# Altium integrated library Maxim Real-Time Clocks (RTCs).IntLib: 548 symbols (part 7 of 13)
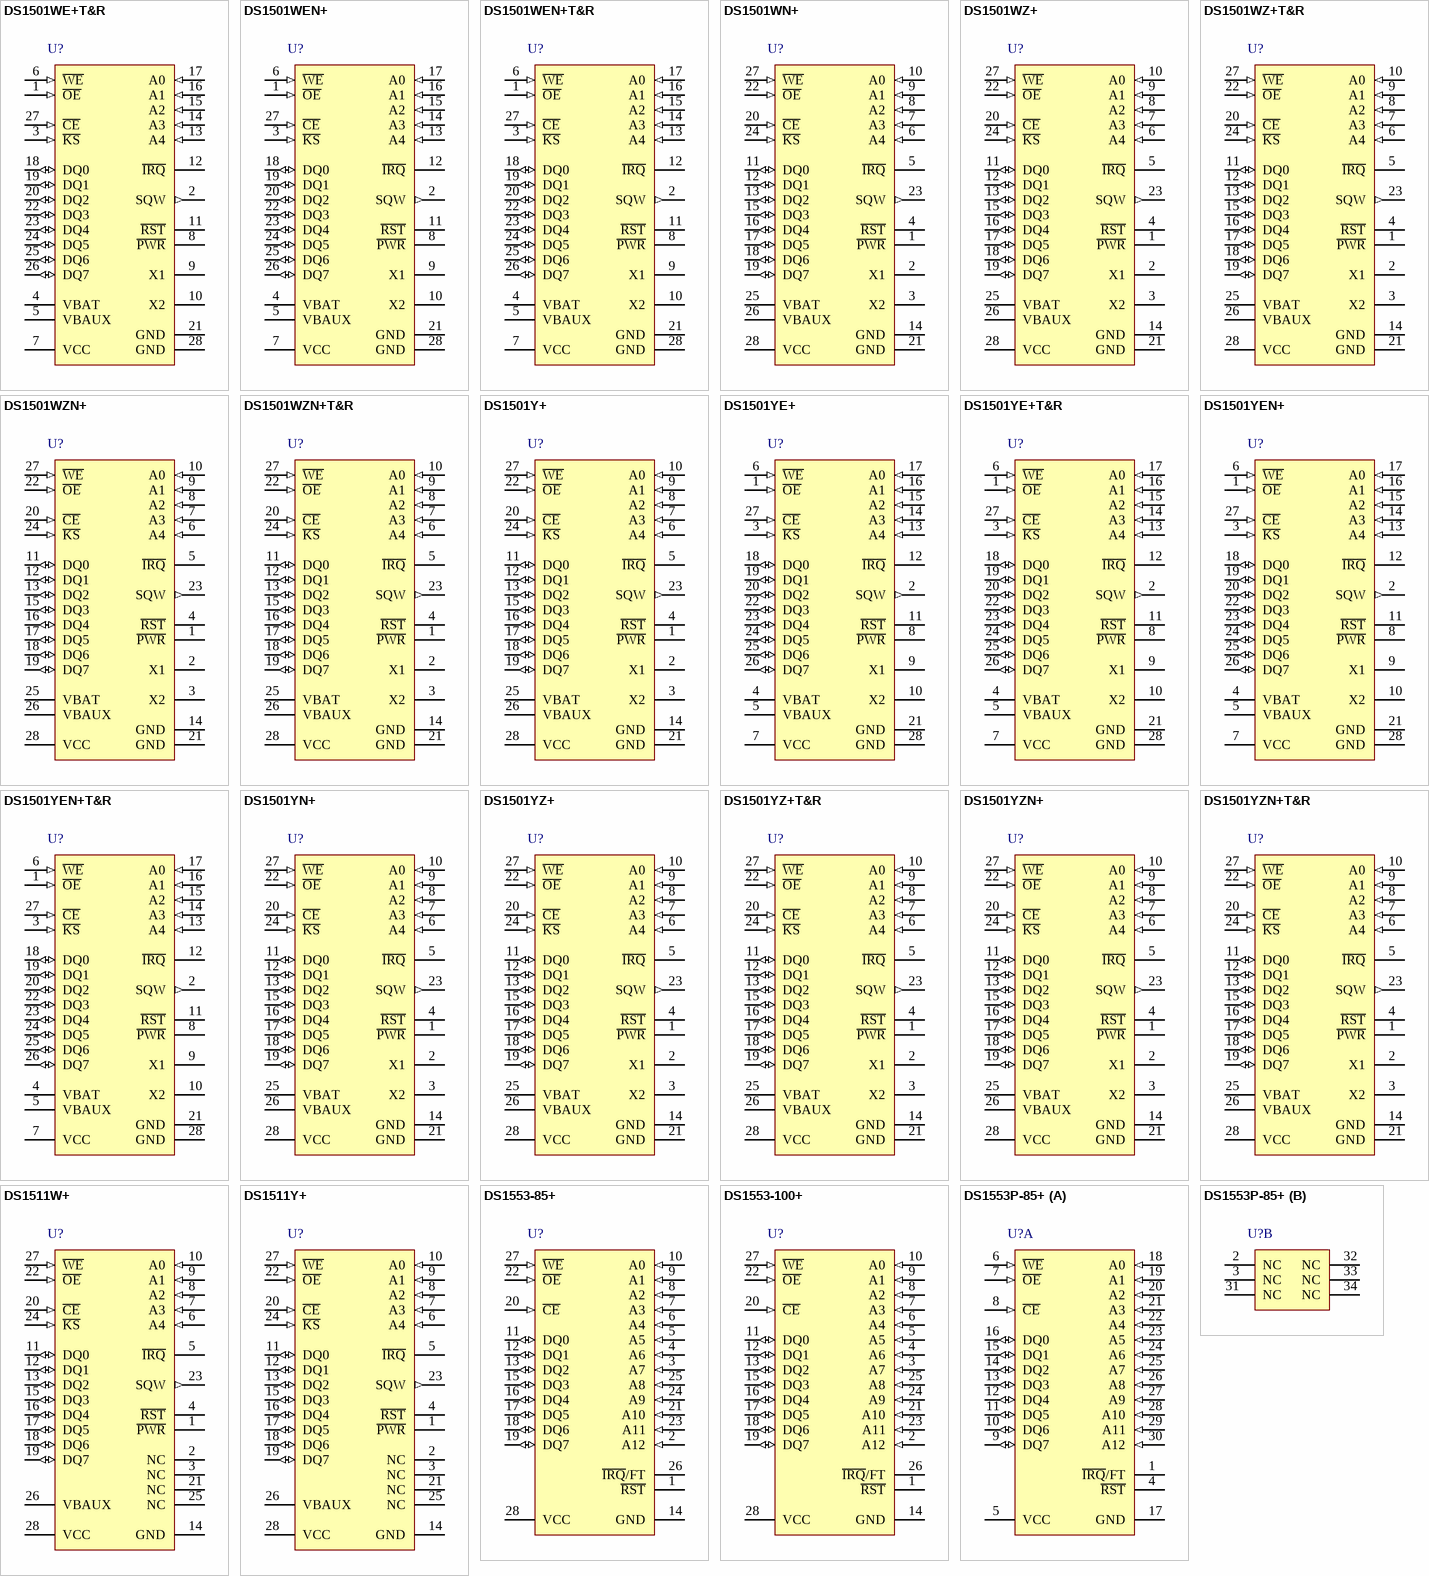
[diagram p27: symbols DS1501WE+T&R to DS1553P-85+]

## DS1501YZN+T&R
designator U?
Y2K-Compliant Watchdog Real-Time Clock, 5.0V, 28-Pin SO, -40 to 85 degC, Pb-Free, Reel; DatasheetVersion: 9-Jan-2009; PackageVersion: revD, 2010; PackageReference: W28+3; PackageDescription: 28-Pin Small-Outline IC, Wide (0.3in), 1.27 mm Pitch, SOIC (W), Pb-Free; Code_JEDEC: MS-013-AE; ComponentLink1Description: Manufacturer URL; ComponentLink1URL: http://www.maxim-ic.com; ComponentLink2Description: Datasheet; ComponentLink2URL: http://datasheets.maxim-ic.com/en/ds/DS1501-DS1511.pdf; ComponentLink3Description: Package Specification; ComponentLink3URL: http://pdfserv.maxim-ic.com/package_dwgs/21-0042.PDF
footprint W28+3_N (SOIC, 28-Leads, Body 17.9x7.5mm, Pitch 1.27mm, IPC Medium Density)
footprint W28+3_L (SOIC, 28-Leads, Body 17.9x7.5mm, Pitch 1.27mm, IPC High Density)
footprint W28+3_M (SOIC, 28-Leads, Body 17.9x7.5mm, Pitch 1.27mm, IPC Low Density)
pins: 1 ~{PWR} (oc), 2 X1, 3 X2, 4 ~{RST} (oc), 5 ~{IRQ} (oc), 6 A4 (in), 7 A3 (in), 8 A2 (in), 9 A1 (in), 10 A0 (in), 11 DQ0 (io), 12 DQ1 (io), 13 DQ2 (io), 14 GND (power), 15 DQ3 (io), 16 DQ4 (io), 17 DQ5 (io), 18 DQ6 (io), 19 DQ7 (io), 20 ~{CE} (in), 21 GND (power), 22 ~{OE} (in), 23 SQW (out), 24 ~{KS} (in), 25 VBAT (power), 26 VBAUX (power), 27 ~{WE} (in), 28 VCC (power)

## DS1511W+
designator U?
Y2K-Compliant Watchdog Real-Time Clock, 3.3V, 28-Pin EDIP, 0 to 70 degC, Pb-Free; DatasheetVersion: 9-Jan-2009; PackageVersion: revA, Feb-2009; PackageReference: MDP28+1; PackageDescription: 28-Pin Encapsulated Dual-In-Line Module, 2.54 mm Pitch, EDIP, 720-mil, Pb-Free; ComponentLink1Description: Manufacturer URL; ComponentLink1URL: http://www.maxim-ic.com; ComponentLink2Description: Datasheet; ComponentLink2URL: http://datasheets.maxim-ic.com/en/ds/DS1501-DS1511.pdf; ComponentLink3Description: Package Specification; ComponentLink3URL: http://pdfserv.maxim-ic.com/package_dwgs/21-0241.PDF
footprint MDP28+1 (DIP; 28 Rectangular Pins, Body 38.9x17.8mm, Row Space 15.24mm, Pitch 2.54mm)
pins: 1 ~{PWR} (oc), 2 NC, 3 NC, 4 ~{RST} (oc), 5 ~{IRQ} (oc), 6 A4 (in), 7 A3 (in), 8 A2 (in), 9 A1 (in), 10 A0 (in), 11 DQ0 (io), 12 DQ1 (io), 13 DQ2 (io), 14 GND (power), 15 DQ3 (io), 16 DQ4 (io), 17 DQ5 (io), 18 DQ6 (io), 19 DQ7 (io), 20 ~{CE} (in), 21 NC, 22 ~{OE} (in), 23 SQW (out), 24 ~{KS} (in), 25 NC, 26 VBAUX (power), 27 ~{WE} (in), 28 VCC (power)

## DS1511Y+
designator U?
Y2K-Compliant Watchdog Real-Time Clock, 5.0V, 28-Pin EDIP, 0 to 70 degC, Pb-Free; DatasheetVersion: 9-Jan-2009; PackageVersion: revA, Feb-2009; PackageReference: MDP28+1; PackageDescription: 28-Pin Encapsulated Dual-In-Line Module, 2.54 mm Pitch, EDIP, 720-mil, Pb-Free; ComponentLink1Description: Manufacturer URL; ComponentLink1URL: http://www.maxim-ic.com; ComponentLink2Description: Datasheet; ComponentLink2URL: http://datasheets.maxim-ic.com/en/ds/DS1501-DS1511.pdf; ComponentLink3Description: Package Specification; ComponentLink3URL: http://pdfserv.maxim-ic.com/package_dwgs/21-0241.PDF
footprint MDP28+1 (DIP; 28 Rectangular Pins, Body 38.9x17.8mm, Row Space 15.24mm, Pitch 2.54mm)
pins: 1 ~{PWR} (oc), 2 NC, 3 NC, 4 ~{RST} (oc), 5 ~{IRQ} (oc), 6 A4 (in), 7 A3 (in), 8 A2 (in), 9 A1 (in), 10 A0 (in), 11 DQ0 (io), 12 DQ1 (io), 13 DQ2 (io), 14 GND (power), 15 DQ3 (io), 16 DQ4 (io), 17 DQ5 (io), 18 DQ6 (io), 19 DQ7 (io), 20 ~{CE} (in), 21 NC, 22 ~{OE} (in), 23 SQW (out), 24 ~{KS} (in), 25 NC, 26 VBAUX (power), 27 ~{WE} (in), 28 VCC (power)

## DS1553-85+
designator U?
64K NV Y2K-Compliant Timekeeping RAM, 5.0V, 28-Pin EDIP, 0 to 70 degC, Pb-Free; DatasheetVersion: rev1, Apr-2010; PackageVersion: revA, Feb-2009; PackageReference: MDF28+2; PackageDescription: 28-Pin Encapsulated Dual-In-Line Module, 2.54 mm Pitch, EDIP, 740-mil, Pb-Free; ComponentLink1Description: Manufacturer URL; ComponentLink1URL: http://www.maxim-ic.com; ComponentLink2Description: Datasheet; ComponentLink2URL: http://datasheets.maxim-ic.com/en/ds/DS1553-DS1553P.pdf; ComponentLink3Description: Package Specification; ComponentLink3URL: http://pdfserv.maxim-ic.com/package_dwgs/21-0245.PDF
footprint MDF28+2 (DIP, 28 Rectangular Pins, Body 38.2x18.5mm, Row Space 15.24mm, Pitch 2.54mm)
pins: 1 ~{RST} (oc), 2 A12 (in), 3 A7 (in), 4 A6 (in), 5 A5 (in), 6 A4 (in), 7 A3 (in), 8 A2 (in), 9 A1 (in), 10 A0 (in), 11 DQ0 (io), 12 DQ1 (io), 13 DQ2 (io), 14 GND (power), 15 DQ3 (io), 16 DQ4 (io), 17 DQ5 (io), 18 DQ6 (io), 19 DQ7 (io), 20 ~{CE} (in), 21 A10 (in), 22 ~{OE} (in), 23 A11 (in), 24 A9 (in), 25 A8 (in), 26 ~{IRQ}/FT (oc), 27 ~{WE} (in), 28 VCC (power)

## DS1553-100+
designator U?
64K NV Y2K-Compliant Timekeeping RAM, 5.0V, 28-Pin EDIP, 0 to 70 degC, Pb-Free; DatasheetVersion: rev1, Apr-2010; PackageVersion: revA, Feb-2009; PackageReference: MDP28+2; PackageDescription: 28-Pin Encapsulated Dual-In-Line Module, 2.54 mm Pitch, EDIP, 740-mil, Pb-Free; ComponentLink1Description: Manufacturer URL; ComponentLink1URL: http://www.maxim-ic.com; ComponentLink2Description: Datasheet; ComponentLink2URL: http://datasheets.maxim-ic.com/en/ds/DS1553-DS1553P.pdf; ComponentLink3Description: Package Specification; ComponentLink3URL: http://pdfserv.maxim-ic.com/package_dwgs/21-0241.PDF
footprint MDP28+2 (DIP; 28 Rectangular Pins, Body 38.9x18.5mm, Row Space 15.24mm, Pitch 2.54mm)
pins: 1 ~{RST} (oc), 2 A12 (in), 3 A7 (in), 4 A6 (in), 5 A5 (in), 6 A4 (in), 7 A3 (in), 8 A2 (in), 9 A1 (in), 10 A0 (in), 11 DQ0 (io), 12 DQ1 (io), 13 DQ2 (io), 14 GND (power), 15 DQ3 (io), 16 DQ4 (io), 17 DQ5 (io), 18 DQ6 (io), 19 DQ7 (io), 20 ~{CE} (in), 21 A10 (in), 22 ~{OE} (in), 23 A11 (in), 24 A9 (in), 25 A8 (in), 26 ~{IRQ}/FT (oc), 27 ~{WE} (in), 28 VCC (power)

## DS1553P-85+
designator U?
64K NV Y2K-Compliant Timekeeping RAM, 5.0V, 34-Pin PowerCap, 0 to 70 degC, Pb-Free; DatasheetVersion: rev1, Apr-2010; PackageVersion: revA, 2004; PackageReference: PC1+2; PackageDescription: 34-Pin PowerCap 0.990 Module with Cap, PCAP, Pb-Free; ComponentLink1Description: Manufacturer URL; ComponentLink1URL: http://www.maxim-ic.com; ComponentLink2Description: Datasheet; ComponentLink2URL: http://datasheets.maxim-ic.com/en/ds/DS1553-DS1553P.pdf; ComponentLink3Description: Package Specification; ComponentLink3URL: http://pdfserv.maxim-ic.com/package_dwgs/21-0246.PDF
footprint PC1+2 (PowerCap Module with Cap, 34-Leads, Body 24.7 x.25.3mm, Pitch 1.27mm)
part A pins: 1 ~{IRQ}/FT (oc), 4 ~{RST} (oc), 5 VCC (power), 6 ~{WE} (in), 7 ~{OE} (in), 8 ~{CE} (in), 9 DQ7 (io), 10 DQ6 (io), 11 DQ5 (io), 12 DQ4 (io), 13 DQ3 (io), 14 DQ2 (io), 15 DQ1 (io), 16 DQ0 (io), 17 GND (power), 18 A0 (in), 19 A1 (in), 20 A2 (in), 21 A3 (in), 22 A4 (in), 23 A5 (in), 24 A6 (in), 25 A7 (in), 26 A8 (in), 27 A9 (in), 28 A10 (in), 29 A11 (in), 30 A12 (in)
part B pins: 2 NC, 3 NC, 31 NC, 32 NC, 33 NC, 34 NC

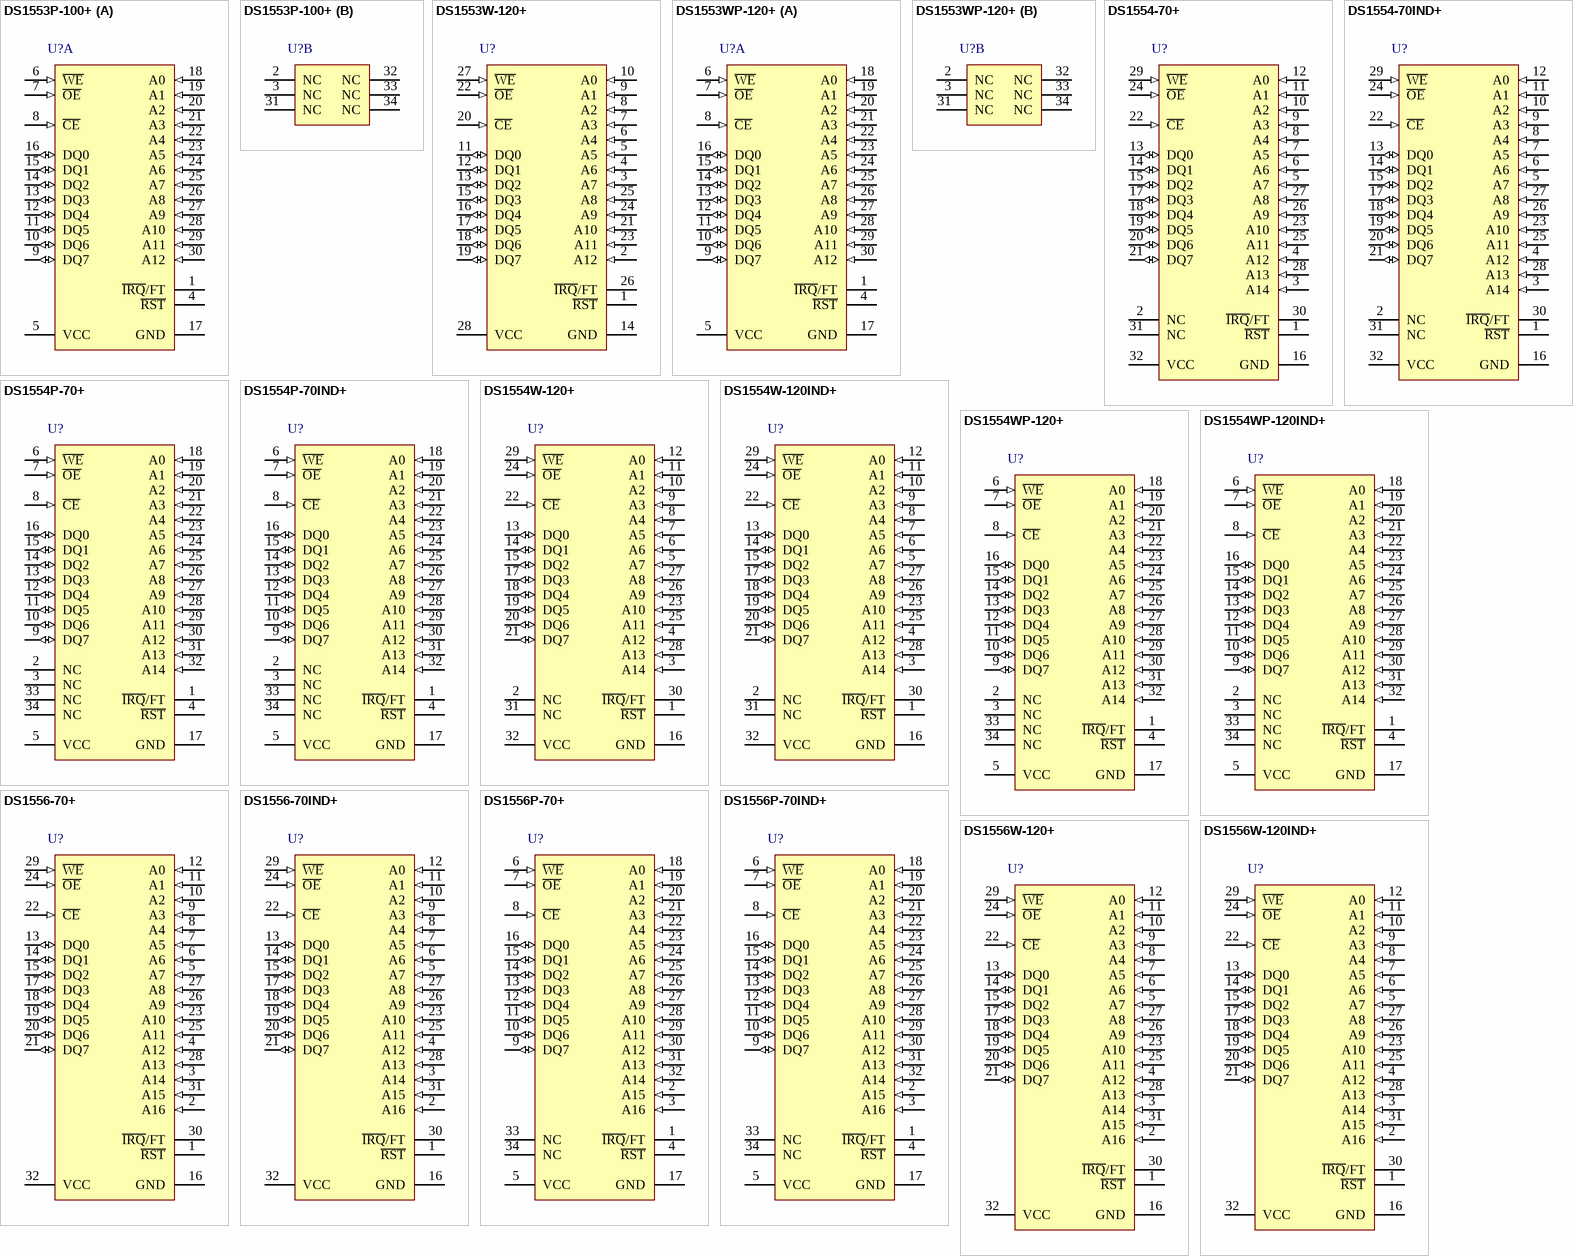
[diagram p10: symbols DS1553P-100+ to DS1556W-120IND+]

## DS1553P-100+
designator U?
64K NV Y2K-Compliant Timekeeping RAM, 5.0V, 34-Pin PowerCap, 0 to 70 degC, Pb-Free; DatasheetVersion: rev1, Apr-2010; PackageVersion: revA, 2004; PackageReference: PC1+2; PackageDescription: 34-Pin PowerCap 0.990 Module with Cap, PCAP, Pb-Free; ComponentLink1Description: Manufacturer URL; ComponentLink1URL: http://www.maxim-ic.com; ComponentLink2Description: Datasheet; ComponentLink2URL: http://datasheets.maxim-ic.com/en/ds/DS1553-DS1553P.pdf; ComponentLink3Description: Package Specification; ComponentLink3URL: http://pdfserv.maxim-ic.com/package_dwgs/21-0246.PDF
footprint PC1+2 (PowerCap Module with Cap, 34-Leads, Body 24.7 x.25.3mm, Pitch 1.27mm)
part A pins: 1 ~{IRQ}/FT (oc), 4 ~{RST} (oc), 5 VCC (power), 6 ~{WE} (in), 7 ~{OE} (in), 8 ~{CE} (in), 9 DQ7 (io), 10 DQ6 (io), 11 DQ5 (io), 12 DQ4 (io), 13 DQ3 (io), 14 DQ2 (io), 15 DQ1 (io), 16 DQ0 (io), 17 GND (power), 18 A0 (in), 19 A1 (in), 20 A2 (in), 21 A3 (in), 22 A4 (in), 23 A5 (in), 24 A6 (in), 25 A7 (in), 26 A8 (in), 27 A9 (in), 28 A10 (in), 29 A11 (in), 30 A12 (in)
part B pins: 2 NC, 3 NC, 31 NC, 32 NC, 33 NC, 34 NC

## DS1553W-120+
designator U?
64K NV Y2K-Compliant Timekeeping RAM, 3.3V, 28-Pin EDIP, 0 to 70 degC, Pb-Free; DatasheetVersion: rev1, Apr-2010; PackageVersion: revA, Feb-2009; PackageReference: MDP28+2; PackageDescription: 28-Pin Encapsulated Dual-In-Line Module, 2.54 mm Pitch, EDIP, 740-mil, Pb-Free; ComponentLink1Description: Manufacturer URL; ComponentLink1URL: http://www.maxim-ic.com; ComponentLink2Description: Datasheet; ComponentLink2URL: http://datasheets.maxim-ic.com/en/ds/DS1553-DS1553P.pdf; ComponentLink3Description: Package Specification; ComponentLink3URL: http://pdfserv.maxim-ic.com/package_dwgs/21-0241.PDF
footprint MDP28+2 (DIP; 28 Rectangular Pins, Body 38.9x18.5mm, Row Space 15.24mm, Pitch 2.54mm)
pins: 1 ~{RST} (oc), 2 A12 (in), 3 A7 (in), 4 A6 (in), 5 A5 (in), 6 A4 (in), 7 A3 (in), 8 A2 (in), 9 A1 (in), 10 A0 (in), 11 DQ0 (io), 12 DQ1 (io), 13 DQ2 (io), 14 GND (power), 15 DQ3 (io), 16 DQ4 (io), 17 DQ5 (io), 18 DQ6 (io), 19 DQ7 (io), 20 ~{CE} (in), 21 A10 (in), 22 ~{OE} (in), 23 A11 (in), 24 A9 (in), 25 A8 (in), 26 ~{IRQ}/FT (oc), 27 ~{WE} (in), 28 VCC (power)

## DS1553WP-120+
designator U?
64K NV Y2K-Compliant Timekeeping RAM, 3.3V, 34-Pin PowerCap, 0 to 70 degC, Pb-Free; DatasheetVersion: rev1, Apr-2010; PackageVersion: revA, 2004; PackageReference: PC1+2; PackageDescription: 34-Pin PowerCap 0.990 Module with Cap, PCAP, Pb-Free; ComponentLink1Description: Manufacturer URL; ComponentLink1URL: http://www.maxim-ic.com; ComponentLink2Description: Datasheet; ComponentLink2URL: http://datasheets.maxim-ic.com/en/ds/DS1553-DS1553P.pdf; ComponentLink3Description: Package Specification; ComponentLink3URL: http://pdfserv.maxim-ic.com/package_dwgs/21-0246.PDF
footprint PC1+2 (PowerCap Module with Cap, 34-Leads, Body 24.7 x.25.3mm, Pitch 1.27mm)
part A pins: 1 ~{IRQ}/FT (oc), 4 ~{RST} (oc), 5 VCC (power), 6 ~{WE} (in), 7 ~{OE} (in), 8 ~{CE} (in), 9 DQ7 (io), 10 DQ6 (io), 11 DQ5 (io), 12 DQ4 (io), 13 DQ3 (io), 14 DQ2 (io), 15 DQ1 (io), 16 DQ0 (io), 17 GND (power), 18 A0 (in), 19 A1 (in), 20 A2 (in), 21 A3 (in), 22 A4 (in), 23 A5 (in), 24 A6 (in), 25 A7 (in), 26 A8 (in), 27 A9 (in), 28 A10 (in), 29 A11 (in), 30 A12 (in)
part B pins: 2 NC, 3 NC, 31 NC, 32 NC, 33 NC, 34 NC

## DS1554-70+
designator U?
256K NV Y2K-Compliant Timekeeping RAM, 5.0V, 32-Pin EDIP, 0 to 70 degC, Pb-Free; DatasheetVersion: Sep-2010; PackageVersion: revA, Feb-2009; PackageReference: MDF32+1; PackageDescription: 32-Pin Encapsulated Dual-In-Line Module, 2.54 mm Pitch, EDIP, Pb-Free; ComponentLink1Description: Manufacturer URL; ComponentLink1URL: http://www.maxim-ic.com; ComponentLink2Description: Datasheet; ComponentLink2URL: http://datasheets.maxim-ic.com/en/ds/DS1554.pdf; ComponentLink3Description: Package Specification; ComponentLink3URL: http://pdfserv.maxim-ic.com/package_dwgs/21-0245.PDF
footprint MDF32+1 (DIP, 32 Rectangular Pins, Body 43.1x18.5mm, Row Space 15.24mm, Pitch 2.54mm)
pins: 1 ~{RST} (oc), 2 NC, 3 A14 (in), 4 A12 (in), 5 A7 (in), 6 A6 (in), 7 A5 (in), 8 A4 (in), 9 A3 (in), 10 A2 (in), 11 A1 (in), 12 A0 (in), 13 DQ0 (io), 14 DQ1 (io), 15 DQ2 (io), 16 GND (power), 17 DQ3 (io), 18 DQ4 (io), 19 DQ5 (io), 20 DQ6 (io), 21 DQ7 (io), 22 ~{CE} (in), 23 A10 (in), 24 ~{OE} (in), 25 A11 (in), 26 A9 (in), 27 A8 (in), 28 A13 (in), 29 ~{WE} (in), 30 ~{IRQ}/FT (oc), 31 NC, 32 VCC (power)

## DS1554-70IND+
designator U?
256K NV Y2K-Compliant Timekeeping RAM, 5.0V, 32-Pin EDIP, -40 to 85 degC, Pb-Free; DatasheetVersion: Sep-2010; PackageVersion: revA, Feb-2009; PackageReference: MDF32+1; PackageDescription: 32-Pin Encapsulated Dual-In-Line Module, 2.54 mm Pitch, EDIP, Pb-Free; ComponentLink1Description: Manufacturer URL; ComponentLink1URL: http://www.maxim-ic.com; ComponentLink2Description: Datasheet; ComponentLink2URL: http://datasheets.maxim-ic.com/en/ds/DS1554.pdf; ComponentLink3Description: Package Specification; ComponentLink3URL: http://pdfserv.maxim-ic.com/package_dwgs/21-0245.PDF
footprint MDF32+1 (DIP, 32 Rectangular Pins, Body 43.1x18.5mm, Row Space 15.24mm, Pitch 2.54mm)
pins: 1 ~{RST} (oc), 2 NC, 3 A14 (in), 4 A12 (in), 5 A7 (in), 6 A6 (in), 7 A5 (in), 8 A4 (in), 9 A3 (in), 10 A2 (in), 11 A1 (in), 12 A0 (in), 13 DQ0 (io), 14 DQ1 (io), 15 DQ2 (io), 16 GND (power), 17 DQ3 (io), 18 DQ4 (io), 19 DQ5 (io), 20 DQ6 (io), 21 DQ7 (io), 22 ~{CE} (in), 23 A10 (in), 24 ~{OE} (in), 25 A11 (in), 26 A9 (in), 27 A8 (in), 28 A13 (in), 29 ~{WE} (in), 30 ~{IRQ}/FT (oc), 31 NC, 32 VCC (power)

## DS1554P-70+
designator U?
256K NV Y2K-Compliant Timekeeping RAM, 5.0V, 34-Pin PowerCap, 0 to 70 degC, Pb-Free; DatasheetVersion: Sep-2010; PackageVersion: revA, 2004; PackageReference: PC2+2; PackageDescription: 34-Pin PowerCap 0.990 Module with Cap, PCAP, Pb-Free; ComponentLink1Description: Manufacturer URL; ComponentLink1URL: http://www.maxim-ic.com; ComponentLink2Description: Datasheet; ComponentLink2URL: http://datasheets.maxim-ic.com/en/ds/DS1554.pdf; ComponentLink3Description: Package Specification; ComponentLink3URL: http://pdfserv.maxim-ic.com/package_dwgs/21-0246.PDF
footprint PC2+2 (PowerCap Module with Cap, 34-Leads, Body 24.7 x.25.3mm, Pitch 1.27mm)
pins: 1 ~{IRQ}/FT (oc), 2 NC, 3 NC, 4 ~{RST} (oc), 5 VCC (power), 6 ~{WE} (in), 7 ~{OE} (in), 8 ~{CE} (in), 9 DQ7 (io), 10 DQ6 (io), 11 DQ5 (io), 12 DQ4 (io), 13 DQ3 (io), 14 DQ2 (io), 15 DQ1 (io), 16 DQ0 (io), 17 GND (power), 18 A0 (in), 19 A1 (in), 20 A2 (in), 21 A3 (in), 22 A4 (in), 23 A5 (in), 24 A6 (in), 25 A7 (in), 26 A8 (in), 27 A9 (in), 28 A10 (in), 29 A11 (in), 30 A12 (in), 31 A13 (in), 32 A14 (in), 33 NC, 34 NC

## DS1554P-70IND+
designator U?
256K NV Y2K-Compliant Timekeeping RAM, 5.0V, 34-Pin PowerCap, -40 to 85 degC, Pb-Free; DatasheetVersion: Sep-2010; PackageVersion: revA, 2004; PackageReference: PC2+2; PackageDescription: 34-Pin PowerCap 0.990 Module with Cap, PCAP, Pb-Free; ComponentLink1Description: Manufacturer URL; ComponentLink1URL: http://www.maxim-ic.com; ComponentLink2Description: Datasheet; ComponentLink2URL: http://datasheets.maxim-ic.com/en/ds/DS1554.pdf; ComponentLink3Description: Package Specification; ComponentLink3URL: http://pdfserv.maxim-ic.com/package_dwgs/21-0246.PDF
footprint PC2+2 (PowerCap Module with Cap, 34-Leads, Body 24.7 x.25.3mm, Pitch 1.27mm)
pins: 1 ~{IRQ}/FT (oc), 2 NC, 3 NC, 4 ~{RST} (oc), 5 VCC (power), 6 ~{WE} (in), 7 ~{OE} (in), 8 ~{CE} (in), 9 DQ7 (io), 10 DQ6 (io), 11 DQ5 (io), 12 DQ4 (io), 13 DQ3 (io), 14 DQ2 (io), 15 DQ1 (io), 16 DQ0 (io), 17 GND (power), 18 A0 (in), 19 A1 (in), 20 A2 (in), 21 A3 (in), 22 A4 (in), 23 A5 (in), 24 A6 (in), 25 A7 (in), 26 A8 (in), 27 A9 (in), 28 A10 (in), 29 A11 (in), 30 A12 (in), 31 A13 (in), 32 A14 (in), 33 NC, 34 NC

## DS1554W-120+
designator U?
256K NV Y2K-Compliant Timekeeping RAM, 3.3V, 32-Pin EDIP, 0 to 70 degC, Pb-Free; DatasheetVersion: Sep-2010; PackageVersion: revA, Feb-2009; PackageReference: MDF32+1; PackageDescription: 32-Pin Encapsulated Dual-In-Line Module, 2.54 mm Pitch, EDIP, Pb-Free; ComponentLink1Description: Manufacturer URL; ComponentLink1URL: http://www.maxim-ic.com; ComponentLink2Description: Datasheet; ComponentLink2URL: http://datasheets.maxim-ic.com/en/ds/DS1554.pdf; ComponentLink3Description: Package Specification; ComponentLink3URL: http://pdfserv.maxim-ic.com/package_dwgs/21-0245.PDF
footprint MDF32+1 (DIP, 32 Rectangular Pins, Body 43.1x18.5mm, Row Space 15.24mm, Pitch 2.54mm)
pins: 1 ~{RST} (oc), 2 NC, 3 A14 (in), 4 A12 (in), 5 A7 (in), 6 A6 (in), 7 A5 (in), 8 A4 (in), 9 A3 (in), 10 A2 (in), 11 A1 (in), 12 A0 (in), 13 DQ0 (io), 14 DQ1 (io), 15 DQ2 (io), 16 GND (power), 17 DQ3 (io), 18 DQ4 (io), 19 DQ5 (io), 20 DQ6 (io), 21 DQ7 (io), 22 ~{CE} (in), 23 A10 (in), 24 ~{OE} (in), 25 A11 (in), 26 A9 (in), 27 A8 (in), 28 A13 (in), 29 ~{WE} (in), 30 ~{IRQ}/FT (oc), 31 NC, 32 VCC (power)

## DS1554W-120IND+
designator U?
256K NV Y2K-Compliant Timekeeping RAM, 3.3V, 32-Pin EDIP, -40 to 85 degC, Pb-Free; DatasheetVersion: Sep-2010; PackageVersion: revA, Feb-2009; PackageReference: MDF32+1; PackageDescription: 32-Pin Encapsulated Dual-In-Line Module, 2.54 mm Pitch, EDIP, Pb-Free; ComponentLink1Description: Manufacturer URL; ComponentLink1URL: http://www.maxim-ic.com; ComponentLink2Description: Datasheet; ComponentLink2URL: http://datasheets.maxim-ic.com/en/ds/DS1554.pdf; ComponentLink3Description: Package Specification; ComponentLink3URL: http://pdfserv.maxim-ic.com/package_dwgs/21-0245.PDF
footprint MDF32+1 (DIP, 32 Rectangular Pins, Body 43.1x18.5mm, Row Space 15.24mm, Pitch 2.54mm)
pins: 1 ~{RST} (oc), 2 NC, 3 A14 (in), 4 A12 (in), 5 A7 (in), 6 A6 (in), 7 A5 (in), 8 A4 (in), 9 A3 (in), 10 A2 (in), 11 A1 (in), 12 A0 (in), 13 DQ0 (io), 14 DQ1 (io), 15 DQ2 (io), 16 GND (power), 17 DQ3 (io), 18 DQ4 (io), 19 DQ5 (io), 20 DQ6 (io), 21 DQ7 (io), 22 ~{CE} (in), 23 A10 (in), 24 ~{OE} (in), 25 A11 (in), 26 A9 (in), 27 A8 (in), 28 A13 (in), 29 ~{WE} (in), 30 ~{IRQ}/FT (oc), 31 NC, 32 VCC (power)

## DS1554WP-120+
designator U?
256K NV Y2K-Compliant Timekeeping RAM, 3.3V, 34-Pin PowerCap, 0 to 70 degC, Pb-Free; DatasheetVersion: Sep-2010; PackageVersion: revA, 2004; PackageReference: PC2+2; PackageDescription: 34-Pin PowerCap 0.990 Module with Cap, PCAP, Pb-Free; ComponentLink1Description: Manufacturer URL; ComponentLink1URL: http://www.maxim-ic.com; ComponentLink2Description: Datasheet; ComponentLink2URL: http://datasheets.maxim-ic.com/en/ds/DS1554.pdf; ComponentLink3Description: Package Specification; ComponentLink3URL: http://pdfserv.maxim-ic.com/package_dwgs/21-0246.PDF
footprint PC2+2 (PowerCap Module with Cap, 34-Leads, Body 24.7 x.25.3mm, Pitch 1.27mm)
pins: 1 ~{IRQ}/FT (oc), 2 NC, 3 NC, 4 ~{RST} (oc), 5 VCC (power), 6 ~{WE} (in), 7 ~{OE} (in), 8 ~{CE} (in), 9 DQ7 (io), 10 DQ6 (io), 11 DQ5 (io), 12 DQ4 (io), 13 DQ3 (io), 14 DQ2 (io), 15 DQ1 (io), 16 DQ0 (io), 17 GND (power), 18 A0 (in), 19 A1 (in), 20 A2 (in), 21 A3 (in), 22 A4 (in), 23 A5 (in), 24 A6 (in), 25 A7 (in), 26 A8 (in), 27 A9 (in), 28 A10 (in), 29 A11 (in), 30 A12 (in), 31 A13 (in), 32 A14 (in), 33 NC, 34 NC

## DS1554WP-120IND+
designator U?
256K NV Y2K-Compliant Timekeeping RAM, 3.3V, 34-Pin PowerCap, -40 to 85 degC, Pb-Free; DatasheetVersion: Sep-2010; PackageVersion: revA, 2004; PackageReference: PC2+2; PackageDescription: 34-Pin PowerCap 0.990 Module with Cap, PCAP, Pb-Free; ComponentLink1Description: Manufacturer URL; ComponentLink1URL: http://www.maxim-ic.com; ComponentLink2Description: Datasheet; ComponentLink2URL: http://datasheets.maxim-ic.com/en/ds/DS1554.pdf; ComponentLink3Description: Package Specification; ComponentLink3URL: http://pdfserv.maxim-ic.com/package_dwgs/21-0246.PDF
footprint PC2+2 (PowerCap Module with Cap, 34-Leads, Body 24.7 x.25.3mm, Pitch 1.27mm)
pins: 1 ~{IRQ}/FT (oc), 2 NC, 3 NC, 4 ~{RST} (oc), 5 VCC (power), 6 ~{WE} (in), 7 ~{OE} (in), 8 ~{CE} (in), 9 DQ7 (io), 10 DQ6 (io), 11 DQ5 (io), 12 DQ4 (io), 13 DQ3 (io), 14 DQ2 (io), 15 DQ1 (io), 16 DQ0 (io), 17 GND (power), 18 A0 (in), 19 A1 (in), 20 A2 (in), 21 A3 (in), 22 A4 (in), 23 A5 (in), 24 A6 (in), 25 A7 (in), 26 A8 (in), 27 A9 (in), 28 A10 (in), 29 A11 (in), 30 A12 (in), 31 A13 (in), 32 A14 (in), 33 NC, 34 NC

## DS1556-70+
designator U?
1MB NV Y2K-Compliant Timekeeping RAM, 5.0V, 32-Pin EDIP, 0 to 70 degC, Pb-Free; DatasheetVersion: Sep-2010; PackageVersion: revA, Feb-2009; PackageReference: MDF32+1; PackageDescription: 32-Pin Encapsulated Dual-In-Line Module, 2.54 mm Pitch, EDIP, Pb-Free; ComponentLink1Description: Manufacturer URL; ComponentLink1URL: http://www.maxim-ic.com; ComponentLink2Description: Datasheet; ComponentLink2URL: http://datasheets.maxim-ic.com/en/ds/DS1556-DS1556P.pdf; ComponentLink3Description: Package Specification; ComponentLink3URL: http://pdfserv.maxim-ic.com/package_dwgs/21-0245.PDF
footprint MDF32+1 (DIP, 32 Rectangular Pins, Body 43.1x18.5mm, Row Space 15.24mm, Pitch 2.54mm)
pins: 1 ~{RST} (oc), 2 A16 (in), 3 A14 (in), 4 A12 (in), 5 A7 (in), 6 A6 (in), 7 A5 (in), 8 A4 (in), 9 A3 (in), 10 A2 (in), 11 A1 (in), 12 A0 (in), 13 DQ0 (io), 14 DQ1 (io), 15 DQ2 (io), 16 GND (power), 17 DQ3 (io), 18 DQ4 (io), 19 DQ5 (io), 20 DQ6 (io), 21 DQ7 (io), 22 ~{CE} (in), 23 A10 (in), 24 ~{OE} (in), 25 A11 (in), 26 A9 (in), 27 A8 (in), 28 A13 (in), 29 ~{WE} (in), 30 ~{IRQ}/FT (oc), 31 A15 (in), 32 VCC (power)

## DS1556-70IND+
designator U?
1MB NV Y2K-Compliant Timekeeping RAM, 5.0V, 32-Pin EDIP, -40 to 85 degC, Pb-Free; DatasheetVersion: Sep-2010; PackageVersion: revA, Feb-2009; PackageReference: MDF32+1; PackageDescription: 32-Pin Encapsulated Dual-In-Line Module, 2.54 mm Pitch, EDIP, Pb-Free; ComponentLink1Description: Manufacturer URL; ComponentLink1URL: http://www.maxim-ic.com; ComponentLink2Description: Datasheet; ComponentLink2URL: http://datasheets.maxim-ic.com/en/ds/DS1556-DS1556P.pdf; ComponentLink3Description: Package Specification; ComponentLink3URL: http://pdfserv.maxim-ic.com/package_dwgs/21-0245.PDF
footprint MDF32+1 (DIP, 32 Rectangular Pins, Body 43.1x18.5mm, Row Space 15.24mm, Pitch 2.54mm)
pins: 1 ~{RST} (oc), 2 A16 (in), 3 A14 (in), 4 A12 (in), 5 A7 (in), 6 A6 (in), 7 A5 (in), 8 A4 (in), 9 A3 (in), 10 A2 (in), 11 A1 (in), 12 A0 (in), 13 DQ0 (io), 14 DQ1 (io), 15 DQ2 (io), 16 GND (power), 17 DQ3 (io), 18 DQ4 (io), 19 DQ5 (io), 20 DQ6 (io), 21 DQ7 (io), 22 ~{CE} (in), 23 A10 (in), 24 ~{OE} (in), 25 A11 (in), 26 A9 (in), 27 A8 (in), 28 A13 (in), 29 ~{WE} (in), 30 ~{IRQ}/FT (oc), 31 A15 (in), 32 VCC (power)

## DS1556P-70+
designator U?
1MB NV Y2K-Compliant Timekeeping RAM, 5.0V, 34-Pin PowerCap, 0 to 70 degC, Pb-Free; DatasheetVersion: Sep-2010; PackageVersion: revA, 2004; PackageReference: PC2+6; PackageDescription: 34-Pin PowerCap 0.990 Module with Cap, PCAP, Pb-Free; ComponentLink1Description: Manufacturer URL; ComponentLink1URL: http://www.maxim-ic.com; ComponentLink2Description: Datasheet; ComponentLink2URL: http://datasheets.maxim-ic.com/en/ds/DS1556-DS1556P.pdf; ComponentLink3Description: Package Specification; ComponentLink3URL: http://pdfserv.maxim-ic.com/package_dwgs/21-0246.PDF
footprint PC2+6 (PowerCap Module with Cap, 34-Leads, Body 24.7 x.25.3mm, Pitch 1.27mm)
pins: 1 ~{IRQ}/FT (oc), 2 A15 (in), 3 A16 (in), 4 ~{RST} (oc), 5 VCC (power), 6 ~{WE} (in), 7 ~{OE} (in), 8 ~{CE} (in), 9 DQ7 (io), 10 DQ6 (io), 11 DQ5 (io), 12 DQ4 (io), 13 DQ3 (io), 14 DQ2 (io), 15 DQ1 (io), 16 DQ0 (io), 17 GND (power), 18 A0 (in), 19 A1 (in), 20 A2 (in), 21 A3 (in), 22 A4 (in), 23 A5 (in), 24 A6 (in), 25 A7 (in), 26 A8 (in), 27 A9 (in), 28 A10 (in), 29 A11 (in), 30 A12 (in), 31 A13 (in), 32 A14 (in), 33 NC, 34 NC

## DS1556P-70IND+
designator U?
1MB NV Y2K-Compliant Timekeeping RAM, 5.0V, 34-Pin PowerCap, -40 to 85 degC, Pb-Free; DatasheetVersion: Sep-2010; PackageVersion: revA, 2004; PackageReference: PC2+6; PackageDescription: 34-Pin PowerCap 0.990 Module with Cap, PCAP, Pb-Free; ComponentLink1Description: Manufacturer URL; ComponentLink1URL: http://www.maxim-ic.com; ComponentLink2Description: Datasheet; ComponentLink2URL: http://datasheets.maxim-ic.com/en/ds/DS1556-DS1556P.pdf; ComponentLink3Description: Package Specification; ComponentLink3URL: http://pdfserv.maxim-ic.com/package_dwgs/21-0246.PDF
footprint PC2+6 (PowerCap Module with Cap, 34-Leads, Body 24.7 x.25.3mm, Pitch 1.27mm)
pins: 1 ~{IRQ}/FT (oc), 2 A15 (in), 3 A16 (in), 4 ~{RST} (oc), 5 VCC (power), 6 ~{WE} (in), 7 ~{OE} (in), 8 ~{CE} (in), 9 DQ7 (io), 10 DQ6 (io), 11 DQ5 (io), 12 DQ4 (io), 13 DQ3 (io), 14 DQ2 (io), 15 DQ1 (io), 16 DQ0 (io), 17 GND (power), 18 A0 (in), 19 A1 (in), 20 A2 (in), 21 A3 (in), 22 A4 (in), 23 A5 (in), 24 A6 (in), 25 A7 (in), 26 A8 (in), 27 A9 (in), 28 A10 (in), 29 A11 (in), 30 A12 (in), 31 A13 (in), 32 A14 (in), 33 NC, 34 NC

## DS1556W-120+
designator U?
1MB NV Y2K-Compliant Timekeeping RAM, 3.3V, 32-Pin EDIP, 0 to 70 degC, Pb-Free; DatasheetVersion: Sep-2010; PackageVersion: revA, Feb-2009; PackageReference: MDF32+1; PackageDescription: 32-Pin Encapsulated Dual-In-Line Module, 2.54 mm Pitch, EDIP, Pb-Free; ComponentLink1Description: Manufacturer URL; ComponentLink1URL: http://www.maxim-ic.com; ComponentLink2Description: Datasheet; ComponentLink2URL: http://datasheets.maxim-ic.com/en/ds/DS1556-DS1556P.pdf; ComponentLink3Description: Package Specification; ComponentLink3URL: http://pdfserv.maxim-ic.com/package_dwgs/21-0245.PDF
footprint MDF32+1 (DIP, 32 Rectangular Pins, Body 43.1x18.5mm, Row Space 15.24mm, Pitch 2.54mm)
pins: 1 ~{RST} (oc), 2 A16 (in), 3 A14 (in), 4 A12 (in), 5 A7 (in), 6 A6 (in), 7 A5 (in), 8 A4 (in), 9 A3 (in), 10 A2 (in), 11 A1 (in), 12 A0 (in), 13 DQ0 (io), 14 DQ1 (io), 15 DQ2 (io), 16 GND (power), 17 DQ3 (io), 18 DQ4 (io), 19 DQ5 (io), 20 DQ6 (io), 21 DQ7 (io), 22 ~{CE} (in), 23 A10 (in), 24 ~{OE} (in), 25 A11 (in), 26 A9 (in), 27 A8 (in), 28 A13 (in), 29 ~{WE} (in), 30 ~{IRQ}/FT (oc), 31 A15 (in), 32 VCC (power)

## DS1556W-120IND+
designator U?
1MB NV Y2K-Compliant Timekeeping RAM, 3.3V, 32-Pin EDIP, -40 to 85 degC, Pb-Free; DatasheetVersion: Sep-2010; PackageVersion: revA, Feb-2009; PackageReference: MDF32+1; PackageDescription: 32-Pin Encapsulated Dual-In-Line Module, 2.54 mm Pitch, EDIP, Pb-Free; ComponentLink1Description: Manufacturer URL; ComponentLink1URL: http://www.maxim-ic.com; ComponentLink2Description: Datasheet; ComponentLink2URL: http://datasheets.maxim-ic.com/en/ds/DS1556-DS1556P.pdf; ComponentLink3Description: Package Specification; ComponentLink3URL: http://pdfserv.maxim-ic.com/package_dwgs/21-0245.PDF
footprint MDF32+1 (DIP, 32 Rectangular Pins, Body 43.1x18.5mm, Row Space 15.24mm, Pitch 2.54mm)
pins: 1 ~{RST} (oc), 2 A16 (in), 3 A14 (in), 4 A12 (in), 5 A7 (in), 6 A6 (in), 7 A5 (in), 8 A4 (in), 9 A3 (in), 10 A2 (in), 11 A1 (in), 12 A0 (in), 13 DQ0 (io), 14 DQ1 (io), 15 DQ2 (io), 16 GND (power), 17 DQ3 (io), 18 DQ4 (io), 19 DQ5 (io), 20 DQ6 (io), 21 DQ7 (io), 22 ~{CE} (in), 23 A10 (in), 24 ~{OE} (in), 25 A11 (in), 26 A9 (in), 27 A8 (in), 28 A13 (in), 29 ~{WE} (in), 30 ~{IRQ}/FT (oc), 31 A15 (in), 32 VCC (power)

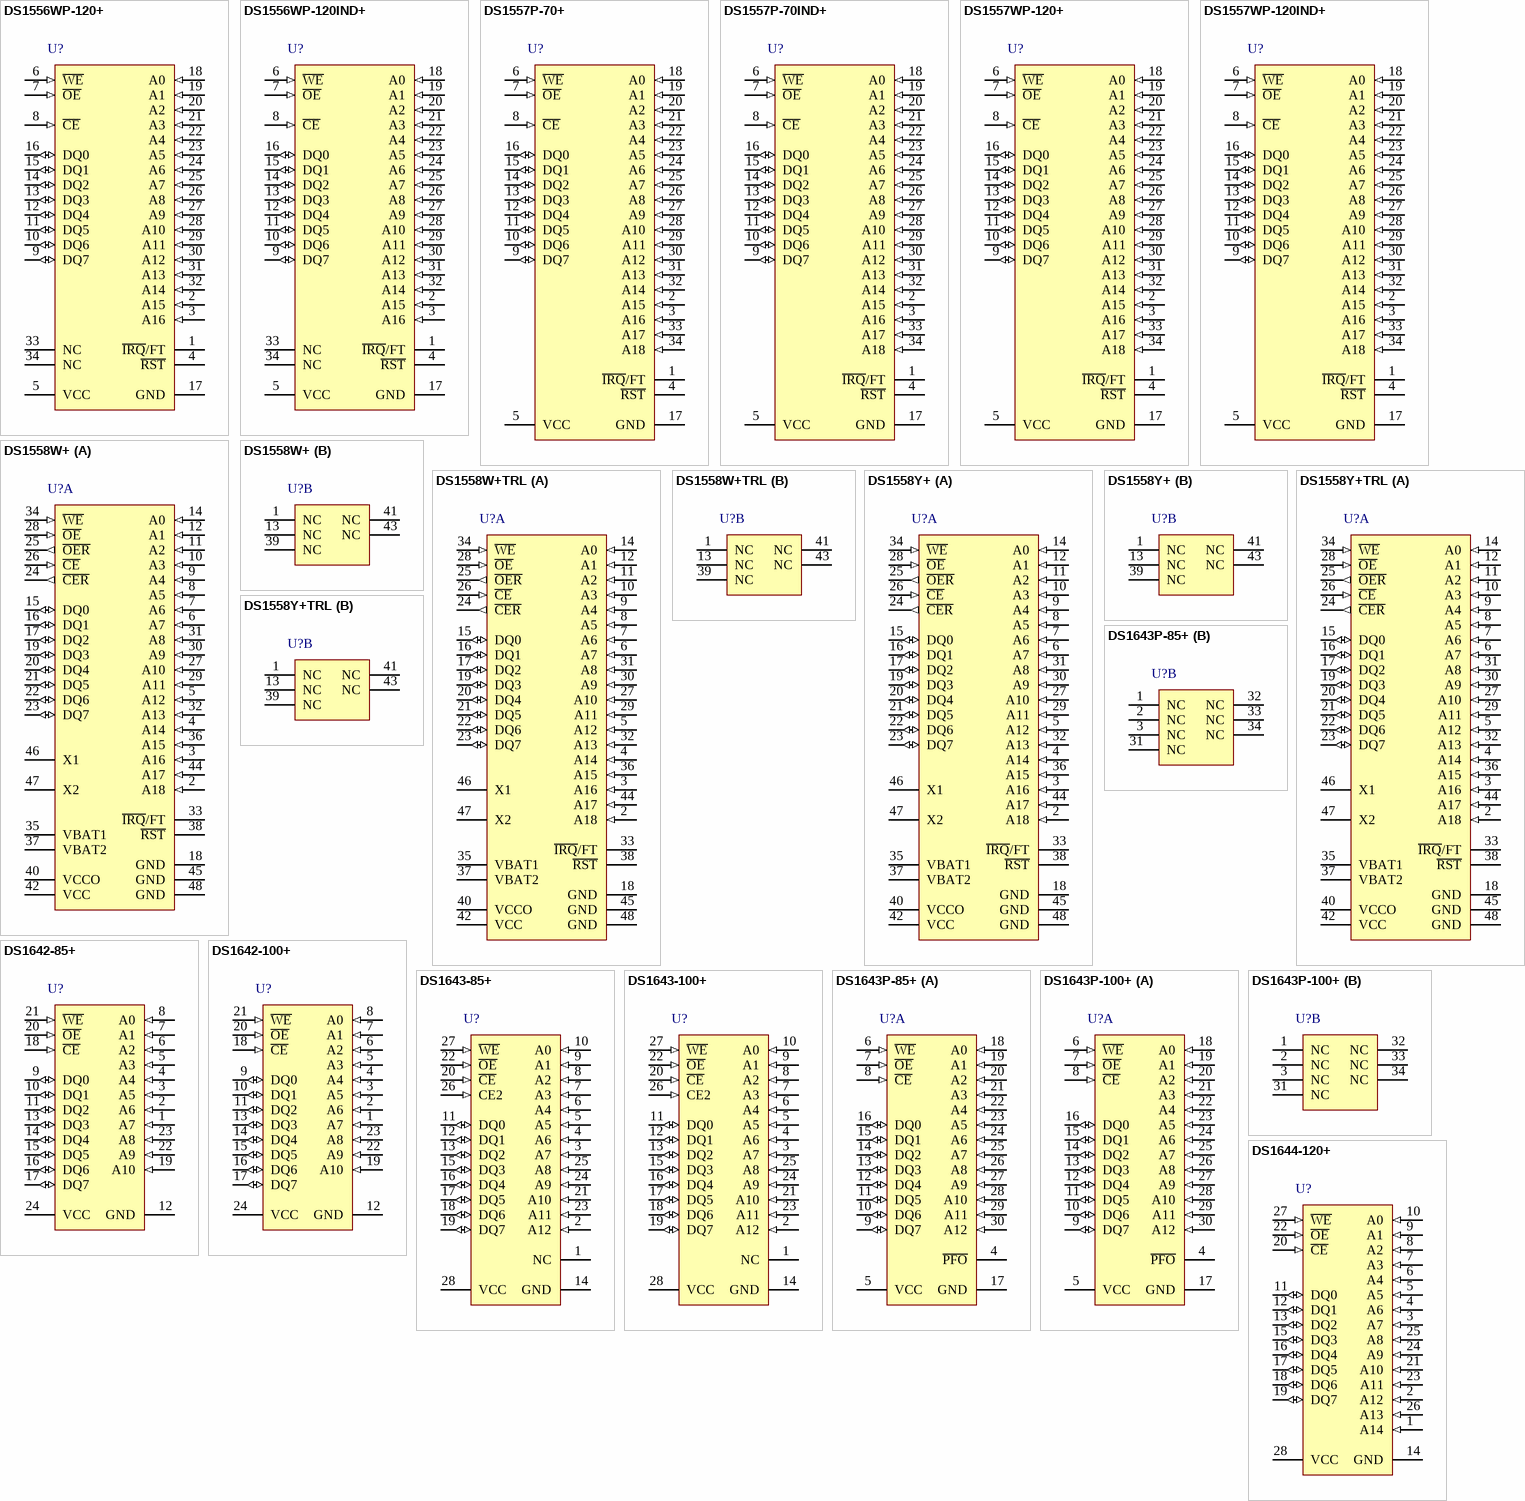
[diagram p11: symbols DS1556WP-120+ to DS1644-120+]

## DS1556WP-120+
designator U?
1MB NV Y2K-Compliant Timekeeping RAM, 3.3V, 34-Pin PowerCap, 0 to 70 degC, Pb-Free; DatasheetVersion: Sep-2010; PackageVersion: revA, 2004; PackageReference: PC2+6; PackageDescription: 34-Pin PowerCap 0.990 Module with Cap, PCAP, Pb-Free; ComponentLink1Description: Manufacturer URL; ComponentLink1URL: http://www.maxim-ic.com; ComponentLink2Description: Datasheet; ComponentLink2URL: http://datasheets.maxim-ic.com/en/ds/DS1556-DS1556P.pdf; ComponentLink3Description: Package Specification; ComponentLink3URL: http://pdfserv.maxim-ic.com/package_dwgs/21-0246.PDF
footprint PC2+6 (PowerCap Module with Cap, 34-Leads, Body 24.7 x.25.3mm, Pitch 1.27mm)
pins: 1 ~{IRQ}/FT (oc), 2 A15 (in), 3 A16 (in), 4 ~{RST} (oc), 5 VCC (power), 6 ~{WE} (in), 7 ~{OE} (in), 8 ~{CE} (in), 9 DQ7 (io), 10 DQ6 (io), 11 DQ5 (io), 12 DQ4 (io), 13 DQ3 (io), 14 DQ2 (io), 15 DQ1 (io), 16 DQ0 (io), 17 GND (power), 18 A0 (in), 19 A1 (in), 20 A2 (in), 21 A3 (in), 22 A4 (in), 23 A5 (in), 24 A6 (in), 25 A7 (in), 26 A8 (in), 27 A9 (in), 28 A10 (in), 29 A11 (in), 30 A12 (in), 31 A13 (in), 32 A14 (in), 33 NC, 34 NC

## DS1556WP-120IND+
designator U?
1MB NV Y2K-Compliant Timekeeping RAM, 3.3V, 34-Pin PowerCap, -40 to 85 degC, Pb-Free; DatasheetVersion: Sep-2010; PackageVersion: revA, 2004; PackageReference: PC2+6; PackageDescription: 34-Pin PowerCap 0.990 Module with Cap, PCAP, Pb-Free; ComponentLink1Description: Manufacturer URL; ComponentLink1URL: http://www.maxim-ic.com; ComponentLink2Description: Datasheet; ComponentLink2URL: http://datasheets.maxim-ic.com/en/ds/DS1556-DS1556P.pdf; ComponentLink3Description: Package Specification; ComponentLink3URL: http://pdfserv.maxim-ic.com/package_dwgs/21-0246.PDF
footprint PC2+6 (PowerCap Module with Cap, 34-Leads, Body 24.7 x.25.3mm, Pitch 1.27mm)
pins: 1 ~{IRQ}/FT (oc), 2 A15 (in), 3 A16 (in), 4 ~{RST} (oc), 5 VCC (power), 6 ~{WE} (in), 7 ~{OE} (in), 8 ~{CE} (in), 9 DQ7 (io), 10 DQ6 (io), 11 DQ5 (io), 12 DQ4 (io), 13 DQ3 (io), 14 DQ2 (io), 15 DQ1 (io), 16 DQ0 (io), 17 GND (power), 18 A0 (in), 19 A1 (in), 20 A2 (in), 21 A3 (in), 22 A4 (in), 23 A5 (in), 24 A6 (in), 25 A7 (in), 26 A8 (in), 27 A9 (in), 28 A10 (in), 29 A11 (in), 30 A12 (in), 31 A13 (in), 32 A14 (in), 33 NC, 34 NC

## DS1557P-70+
designator U?
4MB NV Y2K-Compliant Timekeeping RAM, 5.0V, 34-Pin PowerCap, 0 to 70 degC, Pb-Free; DatasheetVersion: Sep-2010; PackageVersion: revA, 2004; PackageReference: PC2+1; PackageDescription: 34-Pin PowerCap 0.990 Module with Cap, PCAP, Pb-Free; ComponentLink1Description: Manufacturer URL; ComponentLink1URL: http://www.maxim-ic.com; ComponentLink2Description: Datasheet; ComponentLink2URL: http://datasheets.maxim-ic.com/en/ds/DS1557.pdf; ComponentLink3Description: Package Specification; ComponentLink3URL: http://pdfserv.maxim-ic.com/package_dwgs/21-0246.PDF
footprint PC2+1 (PowerCap Module with Cap, 34-Leads, Body 24.7 x.25.3mm, Pitch 1.27mm)
pins: 1 ~{IRQ}/FT (oc), 2 A15 (in), 3 A16 (in), 4 ~{RST} (oc), 5 VCC (power), 6 ~{WE} (in), 7 ~{OE} (in), 8 ~{CE} (in), 9 DQ7 (io), 10 DQ6 (io), 11 DQ5 (io), 12 DQ4 (io), 13 DQ3 (io), 14 DQ2 (io), 15 DQ1 (io), 16 DQ0 (io), 17 GND (power), 18 A0 (in), 19 A1 (in), 20 A2 (in), 21 A3 (in), 22 A4 (in), 23 A5 (in), 24 A6 (in), 25 A7 (in), 26 A8 (in), 27 A9 (in), 28 A10 (in), 29 A11 (in), 30 A12 (in), 31 A13 (in), 32 A14 (in), 33 A17 (in), 34 A18 (in)

## DS1557P-70IND+
designator U?
4MB NV Y2K-Compliant Timekeeping RAM, 5.0V, 34-Pin PowerCap, -40 to 85 degC, Pb-Free; DatasheetVersion: Sep-2010; PackageVersion: revA, 2004; PackageReference: PC2+1; PackageDescription: 34-Pin PowerCap 0.990 Module with Cap, PCAP, Pb-Free; ComponentLink1Description: Manufacturer URL; ComponentLink1URL: http://www.maxim-ic.com; ComponentLink2Description: Datasheet; ComponentLink2URL: http://datasheets.maxim-ic.com/en/ds/DS1557.pdf; ComponentLink3Description: Package Specification; ComponentLink3URL: http://pdfserv.maxim-ic.com/package_dwgs/21-0246.PDF
footprint PC2+1 (PowerCap Module with Cap, 34-Leads, Body 24.7 x.25.3mm, Pitch 1.27mm)
pins: 1 ~{IRQ}/FT (oc), 2 A15 (in), 3 A16 (in), 4 ~{RST} (oc), 5 VCC (power), 6 ~{WE} (in), 7 ~{OE} (in), 8 ~{CE} (in), 9 DQ7 (io), 10 DQ6 (io), 11 DQ5 (io), 12 DQ4 (io), 13 DQ3 (io), 14 DQ2 (io), 15 DQ1 (io), 16 DQ0 (io), 17 GND (power), 18 A0 (in), 19 A1 (in), 20 A2 (in), 21 A3 (in), 22 A4 (in), 23 A5 (in), 24 A6 (in), 25 A7 (in), 26 A8 (in), 27 A9 (in), 28 A10 (in), 29 A11 (in), 30 A12 (in), 31 A13 (in), 32 A14 (in), 33 A17 (in), 34 A18 (in)

## DS1557WP-120+
designator U?
4MB NV Y2K-Compliant Timekeeping RAM, 3.3V, 34-Pin PowerCap, 0 to 70 degC, Pb-Free; DatasheetVersion: Sep-2010; PackageVersion: revA, 2004; PackageReference: PC2+1; PackageDescription: 34-Pin PowerCap 0.990 Module with Cap, PCAP, Pb-Free; ComponentLink1Description: Manufacturer URL; ComponentLink1URL: http://www.maxim-ic.com; ComponentLink2Description: Datasheet; ComponentLink2URL: http://datasheets.maxim-ic.com/en/ds/DS1557.pdf; ComponentLink3Description: Package Specification; ComponentLink3URL: http://pdfserv.maxim-ic.com/package_dwgs/21-0246.PDF
footprint PC2+1 (PowerCap Module with Cap, 34-Leads, Body 24.7 x.25.3mm, Pitch 1.27mm)
pins: 1 ~{IRQ}/FT (oc), 2 A15 (in), 3 A16 (in), 4 ~{RST} (oc), 5 VCC (power), 6 ~{WE} (in), 7 ~{OE} (in), 8 ~{CE} (in), 9 DQ7 (io), 10 DQ6 (io), 11 DQ5 (io), 12 DQ4 (io), 13 DQ3 (io), 14 DQ2 (io), 15 DQ1 (io), 16 DQ0 (io), 17 GND (power), 18 A0 (in), 19 A1 (in), 20 A2 (in), 21 A3 (in), 22 A4 (in), 23 A5 (in), 24 A6 (in), 25 A7 (in), 26 A8 (in), 27 A9 (in), 28 A10 (in), 29 A11 (in), 30 A12 (in), 31 A13 (in), 32 A14 (in), 33 A17 (in), 34 A18 (in)

## DS1557WP-120IND+
designator U?
4MB NV Y2K-Compliant Timekeeping RAM, 3.3V, 34-Pin PowerCap, -40 to 85 degC, Pb-Free; DatasheetVersion: Sep-2010; PackageVersion: revA, 2004; PackageReference: PC2+1; PackageDescription: 34-Pin PowerCap 0.990 Module with Cap, PCAP, Pb-Free; ComponentLink1Description: Manufacturer URL; ComponentLink1URL: http://www.maxim-ic.com; ComponentLink2Description: Datasheet; ComponentLink2URL: http://datasheets.maxim-ic.com/en/ds/DS1557.pdf; ComponentLink3Description: Package Specification; ComponentLink3URL: http://pdfserv.maxim-ic.com/package_dwgs/21-0246.PDF
footprint PC2+1 (PowerCap Module with Cap, 34-Leads, Body 24.7 x.25.3mm, Pitch 1.27mm)
pins: 1 ~{IRQ}/FT (oc), 2 A15 (in), 3 A16 (in), 4 ~{RST} (oc), 5 VCC (power), 6 ~{WE} (in), 7 ~{OE} (in), 8 ~{CE} (in), 9 DQ7 (io), 10 DQ6 (io), 11 DQ5 (io), 12 DQ4 (io), 13 DQ3 (io), 14 DQ2 (io), 15 DQ1 (io), 16 DQ0 (io), 17 GND (power), 18 A0 (in), 19 A1 (in), 20 A2 (in), 21 A3 (in), 22 A4 (in), 23 A5 (in), 24 A6 (in), 25 A7 (in), 26 A8 (in), 27 A9 (in), 28 A10 (in), 29 A11 (in), 30 A12 (in), 31 A13 (in), 32 A14 (in), 33 A17 (in), 34 A18 (in)

## DS1558W+
designator U?
Watchdog Clock, NV RAM Control, 3.3V, 48-Pin LQFP, -40 to 85 degC, Pb-Free; DatasheetVersion: Jul-2005; PackageVersion: revH, 2010; PackageReference: C48+1; PackageDescription: 48-Pin Thin Quad Flat Pack (LQFP), 7 x 7 x 1.4 mm Body, 0.5 mm Pitch, Pb-Free; Code_JEDEC: MS-026-BBC; ComponentLink1Description: Manufacturer URL; ComponentLink1URL: http://www.maxim-ic.com; ComponentLink2Description: Datasheet; ComponentLink2URL: http://datasheets.maxim-ic.com/en/ds/DS1558-DS1558Y.pdf; ComponentLink3Description: Package Specification; ComponentLink3URL: http://pdfserv.maxim-ic.com/package_dwgs/21-0054.PDF
footprint C48+1_N (Thin QFP, 48-Leads, Body 7x7mm, Pitch 0.5mm, IPC Medium Density)
footprint C48+1_L (Thin QFP, 48-Leads, Body 7x7mm, Pitch 0.5mm, IPC High Density)
footprint C48+1_M (Thin QFP, 48-Leads, Body 7x7mm, Pitch 0.5mm, IPC Low Density)
part A pins: 2 A18 (in), 3 A16 (in), 4 A14 (in), 5 A12 (in), 6 A7 (in), 7 A6 (in), 8 A5 (in), 9 A4 (in), 10 A3 (in), 11 A2 (in), 12 A1 (in), 14 A0 (in), 15 DQ0 (io), 16 DQ1 (io), 17 DQ2 (io), 18 GND (power), 19 DQ3 (io), 20 DQ4 (io), 21 DQ5 (io), 22 DQ6 (io), 23 DQ7 (io), 24 ~{CER} (out), 25 ~{OER} (out), 26 ~{CE} (in), 27 A10 (in), 28 ~{OE} (in), 29 A11 (in), 30 A9 (in), 31 A8 (in), 32 A13 (in), 33 ~{IRQ}/FT (oc), 34 ~{WE} (in), 35 VBAT1 (power), 36 A15 (in), 37 VBAT2 (power), 38 ~{RST} (oc), 40 VCCO (power), 42 VCC (power), 44 A17 (in), 45 GND (power), 46 X1, 47 X2, 48 GND (power)
part B pins: 1 NC, 13 NC, 39 NC, 41 NC, 43 NC

## DS1558W+TRL
designator U?
Watchdog Clock, NV RAM Control, 3.3V, 48-Pin LQFP, -40 to 85 degC, Pb-Free; DatasheetVersion: Jul-2005; PackageVersion: revH, 2010; PackageReference: C48+1; PackageDescription: 48-Pin Thin Quad Flat Pack (LQFP), 7 x 7 x 1.4 mm Body, 0.5 mm Pitch, Pb-Free; Code_JEDEC: MS-026-BBC; ComponentLink1Description: Manufacturer URL; ComponentLink1URL: http://www.maxim-ic.com; ComponentLink2Description: Datasheet; ComponentLink2URL: http://datasheets.maxim-ic.com/en/ds/DS1558-DS1558Y.pdf; ComponentLink3Description: Package Specification; ComponentLink3URL: http://pdfserv.maxim-ic.com/package_dwgs/21-0054.PDF
footprint C48+1_N (Thin QFP, 48-Leads, Body 7x7mm, Pitch 0.5mm, IPC Medium Density)
footprint C48+1_L (Thin QFP, 48-Leads, Body 7x7mm, Pitch 0.5mm, IPC High Density)
footprint C48+1_M (Thin QFP, 48-Leads, Body 7x7mm, Pitch 0.5mm, IPC Low Density)
part A pins: 2 A18 (in), 3 A16 (in), 4 A14 (in), 5 A12 (in), 6 A7 (in), 7 A6 (in), 8 A5 (in), 9 A4 (in), 10 A3 (in), 11 A2 (in), 12 A1 (in), 14 A0 (in), 15 DQ0 (io), 16 DQ1 (io), 17 DQ2 (io), 18 GND (power), 19 DQ3 (io), 20 DQ4 (io), 21 DQ5 (io), 22 DQ6 (io), 23 DQ7 (io), 24 ~{CER} (out), 25 ~{OER} (out), 26 ~{CE} (in), 27 A10 (in), 28 ~{OE} (in), 29 A11 (in), 30 A9 (in), 31 A8 (in), 32 A13 (in), 33 ~{IRQ}/FT (oc), 34 ~{WE} (in), 35 VBAT1 (power), 36 A15 (in), 37 VBAT2 (power), 38 ~{RST} (oc), 40 VCCO (power), 42 VCC (power), 44 A17 (in), 45 GND (power), 46 X1, 47 X2, 48 GND (power)
part B pins: 1 NC, 13 NC, 39 NC, 41 NC, 43 NC

## DS1558Y+
designator U?
Watchdog Clock, NV RAM Control, 5.0V, 48-Pin LQFP, -40 to 85 degC, Pb-Free; DatasheetVersion: Jul-2005; PackageVersion: revH, 2010; PackageReference: C48+1; PackageDescription: 48-Pin Thin Quad Flat Pack (LQFP), 7 x 7 x 1.4 mm Body, 0.5 mm Pitch, Pb-Free; Code_JEDEC: MS-026-BBC; ComponentLink1Description: Manufacturer URL; ComponentLink1URL: http://www.maxim-ic.com; ComponentLink2Description: Datasheet; ComponentLink2URL: http://datasheets.maxim-ic.com/en/ds/DS1558-DS1558Y.pdf; ComponentLink3Description: Package Specification; ComponentLink3URL: http://pdfserv.maxim-ic.com/package_dwgs/21-0054.PDF
footprint C48+1_N (Thin QFP, 48-Leads, Body 7x7mm, Pitch 0.5mm, IPC Medium Density)
footprint C48+1_L (Thin QFP, 48-Leads, Body 7x7mm, Pitch 0.5mm, IPC High Density)
footprint C48+1_M (Thin QFP, 48-Leads, Body 7x7mm, Pitch 0.5mm, IPC Low Density)
part A pins: 2 A18 (in), 3 A16 (in), 4 A14 (in), 5 A12 (in), 6 A7 (in), 7 A6 (in), 8 A5 (in), 9 A4 (in), 10 A3 (in), 11 A2 (in), 12 A1 (in), 14 A0 (in), 15 DQ0 (io), 16 DQ1 (io), 17 DQ2 (io), 18 GND (power), 19 DQ3 (io), 20 DQ4 (io), 21 DQ5 (io), 22 DQ6 (io), 23 DQ7 (io), 24 ~{CER} (out), 25 ~{OER} (out), 26 ~{CE} (in), 27 A10 (in), 28 ~{OE} (in), 29 A11 (in), 30 A9 (in), 31 A8 (in), 32 A13 (in), 33 ~{IRQ}/FT (oc), 34 ~{WE} (in), 35 VBAT1 (power), 36 A15 (in), 37 VBAT2 (power), 38 ~{RST} (oc), 40 VCCO (power), 42 VCC (power), 44 A17 (in), 45 GND (power), 46 X1, 47 X2, 48 GND (power)
part B pins: 1 NC, 13 NC, 39 NC, 41 NC, 43 NC

## DS1558Y+TRL
designator U?
Watchdog Clock, NV RAM Control, 5.0V, 48-Pin LQFP, -40 to 85 degC, Pb-Free; DatasheetVersion: Jul-2005; PackageVersion: revH, 2010; PackageReference: C48+1; PackageDescription: 48-Pin Thin Quad Flat Pack (LQFP), 7 x 7 x 1.4 mm Body, 0.5 mm Pitch, Pb-Free; Code_JEDEC: MS-026-BBC; ComponentLink1Description: Manufacturer URL; ComponentLink1URL: http://www.maxim-ic.com; ComponentLink2Description: Datasheet; ComponentLink2URL: http://datasheets.maxim-ic.com/en/ds/DS1558-DS1558Y.pdf; ComponentLink3Description: Package Specification; ComponentLink3URL: http://pdfserv.maxim-ic.com/package_dwgs/21-0054.PDF
footprint C48+1_N (Thin QFP, 48-Leads, Body 7x7mm, Pitch 0.5mm, IPC Medium Density)
footprint C48+1_L (Thin QFP, 48-Leads, Body 7x7mm, Pitch 0.5mm, IPC High Density)
footprint C48+1_M (Thin QFP, 48-Leads, Body 7x7mm, Pitch 0.5mm, IPC Low Density)
part A pins: 2 A18 (in), 3 A16 (in), 4 A14 (in), 5 A12 (in), 6 A7 (in), 7 A6 (in), 8 A5 (in), 9 A4 (in), 10 A3 (in), 11 A2 (in), 12 A1 (in), 14 A0 (in), 15 DQ0 (io), 16 DQ1 (io), 17 DQ2 (io), 18 GND (power), 19 DQ3 (io), 20 DQ4 (io), 21 DQ5 (io), 22 DQ6 (io), 23 DQ7 (io), 24 ~{CER} (out), 25 ~{OER} (out), 26 ~{CE} (in), 27 A10 (in), 28 ~{OE} (in), 29 A11 (in), 30 A9 (in), 31 A8 (in), 32 A13 (in), 33 ~{IRQ}/FT (oc), 34 ~{WE} (in), 35 VBAT1 (power), 36 A15 (in), 37 VBAT2 (power), 38 ~{RST} (oc), 40 VCCO (power), 42 VCC (power), 44 A17 (in), 45 GND (power), 46 X1, 47 X2, 48 GND (power)
part B pins: 1 NC, 13 NC, 39 NC, 41 NC, 43 NC

## DS1642-85+
designator U?
Nonvolatile Timekeeping RAM, 5.0V, 24-Pin EDIP, 0 to 70 degC, Pb-Free; DatasheetVersion: May-2010; PackageVersion: revA, Feb-2009; PackageReference: MDF24+1; PackageDescription: 24-Pin Encapsulated Dual-In-Line Module, 2.54 mm Pitch, EDIP, Pb-Free; ComponentLink1Description: Manufacturer URL; ComponentLink1URL: http://www.maxim-ic.com; ComponentLink2Description: Datasheet; ComponentLink2URL: http://datasheets.maxim-ic.com/en/ds/DS1642.pdf; ComponentLink3Description: Package Specification; ComponentLink3URL: http://pdfserv.maxim-ic.com/package_dwgs/21-0245.PDF
footprint MDF24+1 (DIP, 24 Rectangular Pins, Body 33x17.8mm, Row Space 15.24mm, Pitch 2.54mm)
pins: 1 A7 (in), 2 A6 (in), 3 A5 (in), 4 A4 (in), 5 A3 (in), 6 A2 (in), 7 A1 (in), 8 A0 (in), 9 DQ0 (io), 10 DQ1 (io), 11 DQ2 (io), 12 GND (power), 13 DQ3 (io), 14 DQ4 (io), 15 DQ5 (io), 16 DQ6 (io), 17 DQ7 (io), 18 ~{CE} (in), 19 A10 (in), 20 ~{OE} (in), 21 ~{WE} (in), 22 A9 (in), 23 A8 (in), 24 VCC (power)

## DS1642-100+
designator U?
Nonvolatile Timekeeping RAM, 5.0V, 24-Pin EDIP, 0 to 70 degC, Pb-Free; DatasheetVersion: May-2010; PackageVersion: revA, Feb-2009; PackageReference: MDF24+1; PackageDescription: 24-Pin Encapsulated Dual-In-Line Module, 2.54 mm Pitch, EDIP, Pb-Free; ComponentLink1Description: Manufacturer URL; ComponentLink1URL: http://www.maxim-ic.com; ComponentLink2Description: Datasheet; ComponentLink2URL: http://datasheets.maxim-ic.com/en/ds/DS1642.pdf; ComponentLink3Description: Package Specification; ComponentLink3URL: http://pdfserv.maxim-ic.com/package_dwgs/21-0245.PDF
footprint MDF24+1 (DIP, 24 Rectangular Pins, Body 33x17.8mm, Row Space 15.24mm, Pitch 2.54mm)
pins: 1 A7 (in), 2 A6 (in), 3 A5 (in), 4 A4 (in), 5 A3 (in), 6 A2 (in), 7 A1 (in), 8 A0 (in), 9 DQ0 (io), 10 DQ1 (io), 11 DQ2 (io), 12 GND (power), 13 DQ3 (io), 14 DQ4 (io), 15 DQ5 (io), 16 DQ6 (io), 17 DQ7 (io), 18 ~{CE} (in), 19 A10 (in), 20 ~{OE} (in), 21 ~{WE} (in), 22 A9 (in), 23 A8 (in), 24 VCC (power)

## DS1643-85+
designator U?
Nonvolatile Timekeeping RAM, 5.0V, 28-Pin EDIP, 0 to 70 degC, Pb-Free; DatasheetVersion: May-2010; PackageVersion: revA, Feb-2009; PackageReference: MDF28+2; PackageDescription: 28-Pin Encapsulated Dual-In-Line Module, 2.54 mm Pitch, EDIP, 740-mil, Pb-Free; ComponentLink1Description: Manufacturer URL; ComponentLink1URL: http://www.maxim-ic.com; ComponentLink2Description: Datasheet; ComponentLink2URL: http://datasheets.maxim-ic.com/en/ds/DS1643-DS1643P.pdf; ComponentLink3Description: Package Specification; ComponentLink3URL: http://pdfserv.maxim-ic.com/package_dwgs/21-0245.PDF
footprint MDF28+2 (DIP, 28 Rectangular Pins, Body 38.2x18.5mm, Row Space 15.24mm, Pitch 2.54mm)
pins: 1 NC, 2 A12 (in), 3 A7 (in), 4 A6 (in), 5 A5 (in), 6 A4 (in), 7 A3 (in), 8 A2 (in), 9 A1 (in), 10 A0 (in), 11 DQ0 (io), 12 DQ1 (io), 13 DQ2 (io), 14 GND (power), 15 DQ3 (io), 16 DQ4 (io), 17 DQ5 (io), 18 DQ6 (io), 19 DQ7 (io), 20 ~{CE} (in), 21 A10 (in), 22 ~{OE} (in), 23 A11 (in), 24 A9 (in), 25 A8 (in), 26 CE2 (in), 27 ~{WE} (in), 28 VCC (power)

## DS1643-100+
designator U?
Nonvolatile Timekeeping RAM, 5.0V, 28-Pin EDIP, 0 to 70 degC, Pb-Free; DatasheetVersion: May-2010; PackageVersion: revA, Feb-2009; PackageReference: MDF28+2; PackageDescription: 28-Pin Encapsulated Dual-In-Line Module, 2.54 mm Pitch, EDIP, 740-mil, Pb-Free; ComponentLink1Description: Manufacturer URL; ComponentLink1URL: http://www.maxim-ic.com; ComponentLink2Description: Datasheet; ComponentLink2URL: http://datasheets.maxim-ic.com/en/ds/DS1643-DS1643P.pdf; ComponentLink3Description: Package Specification; ComponentLink3URL: http://pdfserv.maxim-ic.com/package_dwgs/21-0245.PDF
footprint MDF28+2 (DIP, 28 Rectangular Pins, Body 38.2x18.5mm, Row Space 15.24mm, Pitch 2.54mm)
pins: 1 NC, 2 A12 (in), 3 A7 (in), 4 A6 (in), 5 A5 (in), 6 A4 (in), 7 A3 (in), 8 A2 (in), 9 A1 (in), 10 A0 (in), 11 DQ0 (io), 12 DQ1 (io), 13 DQ2 (io), 14 GND (power), 15 DQ3 (io), 16 DQ4 (io), 17 DQ5 (io), 18 DQ6 (io), 19 DQ7 (io), 20 ~{CE} (in), 21 A10 (in), 22 ~{OE} (in), 23 A11 (in), 24 A9 (in), 25 A8 (in), 26 CE2 (in), 27 ~{WE} (in), 28 VCC (power)

## DS1643P-85+
designator U?
Nonvolatile Timekeeping RAM, 5.0V, 34-Pin PowerCap, 0 to 70 degC, Pb-Free; DatasheetVersion: May-2010; PackageVersion: revA, 2004; PackageReference: PC1+2; PackageDescription: 34-Pin PowerCap 0.990 Module with Cap, PCAP, Pb-Free; ComponentLink1Description: Manufacturer URL; ComponentLink1URL: http://www.maxim-ic.com; ComponentLink2Description: Datasheet; ComponentLink2URL: http://datasheets.maxim-ic.com/en/ds/DS1643-DS1643P.pdf; ComponentLink3Description: Package Specification; ComponentLink3URL: http://pdfserv.maxim-ic.com/package_dwgs/21-0246.PDF
footprint PC1+2 (PowerCap Module with Cap, 34-Leads, Body 24.7 x.25.3mm, Pitch 1.27mm)
part A pins: 4 ~{PFO} (oc), 5 VCC (power), 6 ~{WE} (in), 7 ~{OE} (in), 8 ~{CE} (in), 9 DQ7 (io), 10 DQ6 (io), 11 DQ5 (io), 12 DQ4 (io), 13 DQ3 (io), 14 DQ2 (io), 15 DQ1 (io), 16 DQ0 (io), 17 GND (power), 18 A0 (in), 19 A1 (in), 20 A2 (in), 21 A3 (in), 22 A4 (in), 23 A5 (in), 24 A6 (in), 25 A7 (in), 26 A8 (in), 27 A9 (in), 28 A10 (in), 29 A11 (in), 30 A12 (in)
part B pins: 1 NC, 2 NC, 3 NC, 31 NC, 32 NC, 33 NC, 34 NC

## DS1643P-100+
designator U?
Nonvolatile Timekeeping RAM, 5.0V, 34-Pin PowerCap, 0 to 70 degC, Pb-Free; DatasheetVersion: May-2010; PackageVersion: revA, 2004; PackageReference: PC1+2; PackageDescription: 34-Pin PowerCap 0.990 Module with Cap, PCAP, Pb-Free; ComponentLink1Description: Manufacturer URL; ComponentLink1URL: http://www.maxim-ic.com; ComponentLink2Description: Datasheet; ComponentLink2URL: http://datasheets.maxim-ic.com/en/ds/DS1643-DS1643P.pdf; ComponentLink3Description: Package Specification; ComponentLink3URL: http://pdfserv.maxim-ic.com/package_dwgs/21-0246.PDF
footprint PC1+2 (PowerCap Module with Cap, 34-Leads, Body 24.7 x.25.3mm, Pitch 1.27mm)
part A pins: 4 ~{PFO} (oc), 5 VCC (power), 6 ~{WE} (in), 7 ~{OE} (in), 8 ~{CE} (in), 9 DQ7 (io), 10 DQ6 (io), 11 DQ5 (io), 12 DQ4 (io), 13 DQ3 (io), 14 DQ2 (io), 15 DQ1 (io), 16 DQ0 (io), 17 GND (power), 18 A0 (in), 19 A1 (in), 20 A2 (in), 21 A3 (in), 22 A4 (in), 23 A5 (in), 24 A6 (in), 25 A7 (in), 26 A8 (in), 27 A9 (in), 28 A10 (in), 29 A11 (in), 30 A12 (in)
part B pins: 1 NC, 2 NC, 3 NC, 31 NC, 32 NC, 33 NC, 34 NC

## DS1644-120+
designator U?
Nonvolatile Timekeeping RAM, 5.0V, 28-Pin EDIP, 0 to 70 degC, Pb-Free; DatasheetVersion: Apr-2010; PackageVersion: revA, Feb-2009; PackageReference: MDF28+3; PackageDescription: 28-Pin Encapsulated Dual-In-Line Module, 2.54 mm Pitch, EDIP, 740-mil, Pb-Free; ComponentLink1Description: Manufacturer URL; ComponentLink1URL: http://www.maxim-ic.com; ComponentLink2Description: Datasheet; ComponentLink2URL: http://datasheets.maxim-ic.com/en/ds/DS1644-DS1644P.pdf; ComponentLink3Description: Package Specification; ComponentLink3URL: http://pdfserv.maxim-ic.com/package_dwgs/21-0245.PDF
footprint MDF28+3 (DIP, 28 Rectangular Pins, Body 38.2x18.5mm, Row Space 15.24mm, Pitch 2.54mm)
pins: 1 A14 (in), 2 A12 (in), 3 A7 (in), 4 A6 (in), 5 A5 (in), 6 A4 (in), 7 A3 (in), 8 A2 (in), 9 A1 (in), 10 A0 (in), 11 DQ0 (io), 12 DQ1 (io), 13 DQ2 (io), 14 GND (power), 15 DQ3 (io), 16 DQ4 (io), 17 DQ5 (io), 18 DQ6 (io), 19 DQ7 (io), 20 ~{CE} (in), 21 A10 (in), 22 ~{OE} (in), 23 A11 (in), 24 A9 (in), 25 A8 (in), 26 A13 (in), 27 ~{WE} (in), 28 VCC (power)

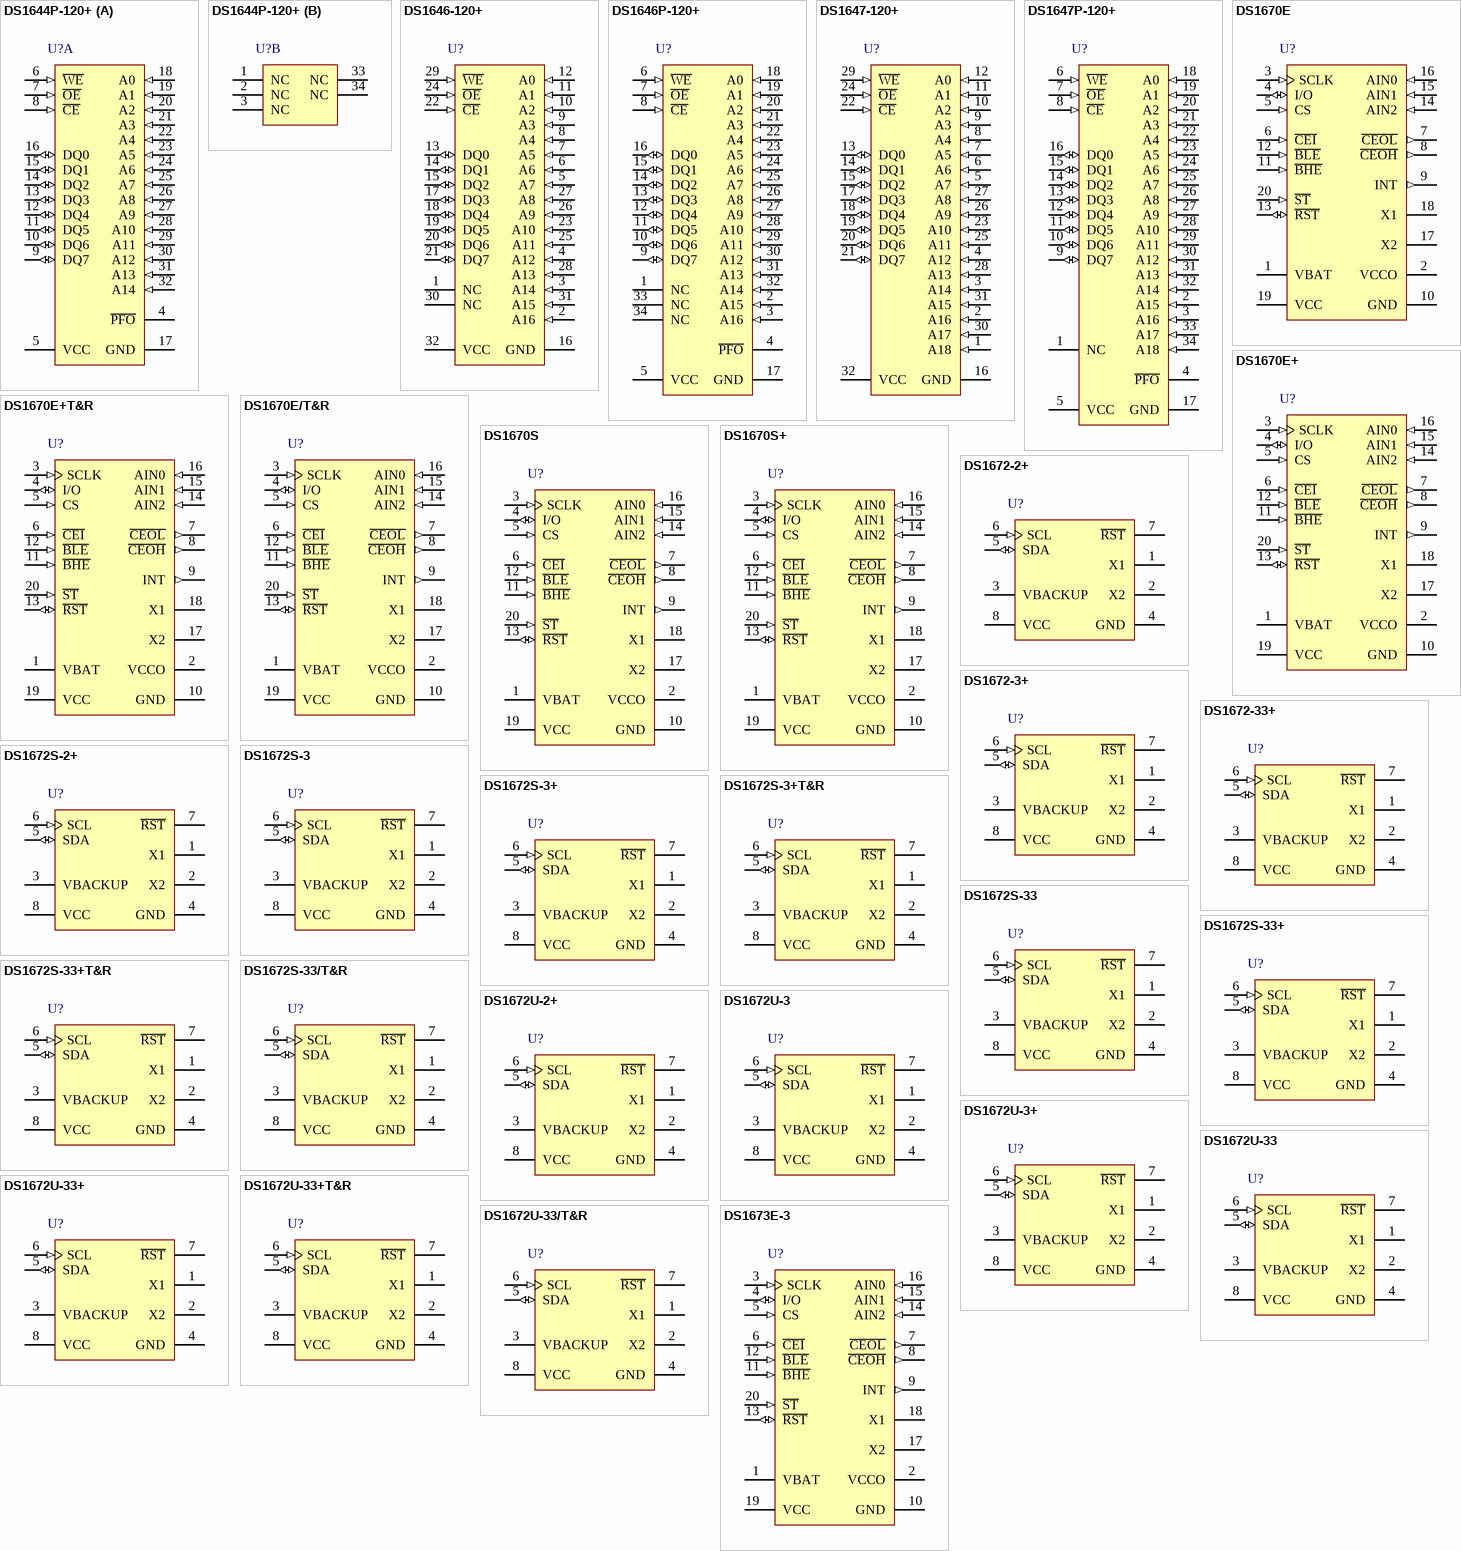
[diagram p12: symbols DS1644P-120+ to DS1673E-3]

## DS1644P-120+
designator U?
Nonvolatile Timekeeping RAM, 5.0V, 34-Pin PowerCap, 0 to 70 degC, Pb-Free; DatasheetVersion: Apr-2010; PackageVersion: revA, 2004; PackageReference: PC2+2; PackageDescription: 34-Pin PowerCap 0.990 Module with Cap, PCAP, Pb-Free; ComponentLink1Description: Manufacturer URL; ComponentLink1URL: http://www.maxim-ic.com; ComponentLink2Description: Datasheet; ComponentLink2URL: http://datasheets.maxim-ic.com/en/ds/DS1644-DS1644P.pdf; ComponentLink3Description: Package Specification; ComponentLink3URL: http://pdfserv.maxim-ic.com/package_dwgs/21-0246.PDF
footprint PC2+2 (PowerCap Module with Cap, 34-Leads, Body 24.7 x.25.3mm, Pitch 1.27mm)
part A pins: 4 ~{PFO} (oc), 5 VCC (power), 6 ~{WE} (in), 7 ~{OE} (in), 8 ~{CE} (in), 9 DQ7 (io), 10 DQ6 (io), 11 DQ5 (io), 12 DQ4 (io), 13 DQ3 (io), 14 DQ2 (io), 15 DQ1 (io), 16 DQ0 (io), 17 GND (power), 18 A0 (in), 19 A1 (in), 20 A2 (in), 21 A3 (in), 22 A4 (in), 23 A5 (in), 24 A6 (in), 25 A7 (in), 26 A8 (in), 27 A9 (in), 28 A10 (in), 29 A11 (in), 30 A12 (in), 31 A13 (in), 32 A14 (in)
part B pins: 1 NC, 2 NC, 3 NC, 33 NC, 34 NC

## DS1646-120+
designator U?
Nonvolatile Timekeeping RAM, 5.0V, 32-Pin EDIP, 0 to 70 degC, Pb-Free; DatasheetVersion: Oct-2010; PackageVersion: revA, Feb-2009; PackageReference: MDF32+1; PackageDescription: 32-Pin Encapsulated Dual-In-Line Module, 2.54 mm Pitch, EDIP, Pb-Free; ComponentLink1Description: Manufacturer URL; ComponentLink1URL: http://www.maxim-ic.com; ComponentLink2Description: Datasheet; ComponentLink2URL: http://datasheets.maxim-ic.com/en/ds/DS1646-DS1646P.pdf; ComponentLink3Description: Package Specification; ComponentLink3URL: http://pdfserv.maxim-ic.com/package_dwgs/21-0245.PDF
footprint MDF32+1 (DIP, 32 Rectangular Pins, Body 43.1x18.5mm, Row Space 15.24mm, Pitch 2.54mm)
pins: 1 NC, 2 A16 (in), 3 A14 (in), 4 A12 (in), 5 A7 (in), 6 A6 (in), 7 A5 (in), 8 A4 (in), 9 A3 (in), 10 A2 (in), 11 A1 (in), 12 A0 (in), 13 DQ0 (io), 14 DQ1 (io), 15 DQ2 (io), 16 GND (power), 17 DQ3 (io), 18 DQ4 (io), 19 DQ5 (io), 20 DQ6 (io), 21 DQ7 (io), 22 ~{CE} (in), 23 A10 (in), 24 ~{OE} (in), 25 A11 (in), 26 A9 (in), 27 A8 (in), 28 A13 (in), 29 ~{WE} (in), 30 NC, 31 A15 (in), 32 VCC (power)

## DS1646P-120+
designator U?
Nonvolatile Timekeeping RAM, 5.0V, 34-Pin PowerCap, 0 to 70 degC, Pb-Free; DatasheetVersion: Oct-2010; PackageVersion: revA, 2004; PackageReference: PC2+6; PackageDescription: 34-Pin PowerCap 0.990 Module with Cap, PCAP, Pb-Free; ComponentLink1Description: Manufacturer URL; ComponentLink1URL: http://www.maxim-ic.com; ComponentLink2Description: Datasheet; ComponentLink2URL: http://datasheets.maxim-ic.com/en/ds/DS1646-DS1646P.pdf; ComponentLink3Description: Package Specification; ComponentLink3URL: http://pdfserv.maxim-ic.com/package_dwgs/21-0246.PDF
footprint PC2+6 (PowerCap Module with Cap, 34-Leads, Body 24.7 x.25.3mm, Pitch 1.27mm)
pins: 1 NC, 2 A15 (in), 3 A16 (in), 4 ~{PFO} (oc), 5 VCC (power), 6 ~{WE} (in), 7 ~{OE} (in), 8 ~{CE} (in), 9 DQ7 (io), 10 DQ6 (io), 11 DQ5 (io), 12 DQ4 (io), 13 DQ3 (io), 14 DQ2 (io), 15 DQ1 (io), 16 DQ0 (io), 17 GND (power), 18 A0 (in), 19 A1 (in), 20 A2 (in), 21 A3 (in), 22 A4 (in), 23 A5 (in), 24 A6 (in), 25 A7 (in), 26 A8 (in), 27 A9 (in), 28 A10 (in), 29 A11 (in), 30 A12 (in), 31 A13 (in), 32 A14 (in), 33 NC, 34 NC